# Altium footprint library Button.PcbLib: 1 footprints
Each footprint in its own frame and in the unit in brackets; x right, y up, seen from the top. Pads: shape width x height; smd on the part's side, far side on the other; paste and mask are expansions set on the pad; w line width, h text height; cw(c..) or ccw(c..) is an arc to the next point about the centre after c.
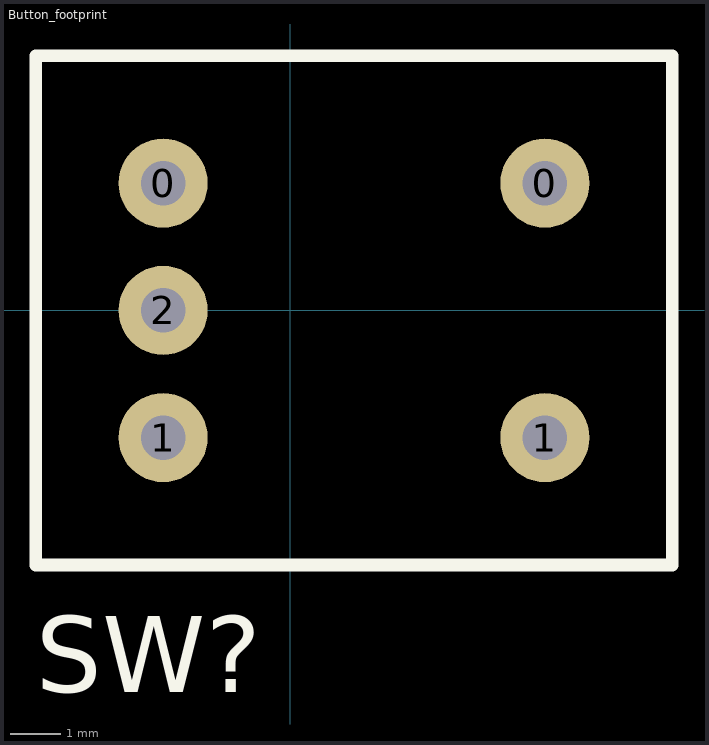
[diagram p0: the footprint, top view; thin cyan lines are the x and y axes]

## Button_footprint [mil]
pads (5):
  round 70 hole 35: 0(-100,100) 0(200,100) 1(-100,-100) 1(200,-100) 2(-100,0)
Top Overlay:
  lines w10: -200,-200 300,-200 300,200 -200,200 -200,100 -200,-200
  text "SW?" at -200,-300 h60
3D body: height 185, standoff 0, extent -100,-100 200,100